# Altium schematic symbol library Symbols.SchLib: 4 symbols
Pins are listed as number, name and electrical type; pins without a type are passive.

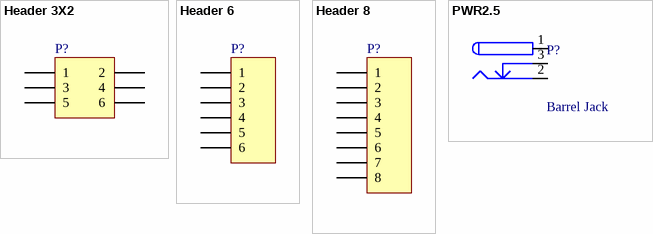
[diagram p0: symbols Header 3X2 to PWR2.5]

## Header 3X2
designator P?
Header, 3-Pin, Dual row; LatestRevisionDate: 17-Jul-2002; LatestRevisionNote: Re-released for DXP Platform.; Publisher: Altium Limited
signal-integrity model Connector
footprint HDR2X3M (Connector; Header; 3x2 Position)
pins: 1, 2, 3, 4, 5, 6

## Header 6
designator P?
Header, 6-Pin; LatestRevisionDate: 17-Jul-2002; LatestRevisionNote: Re-released for DXP Platform.; Publisher: Altium Limited
signal-integrity model Connector
footprint HDR1X6m (Connector; Header; 6 Position)
footprint HDR1X6m (Connector; Header; 6 Position)
pins: 1, 2, 3, 4, 5, 6

## Header 8
designator P?
Header, 8-Pin; LatestRevisionDate: 17-Jul-2002; LatestRevisionNote: Re-released for DXP Platform.; Publisher: Altium Limited
signal-integrity model Connector
footprint HDR1X8F (Connector; Header; 8 Position)
pins: 1, 2, 3, 4, 5, 6, 7, 8

## PWR2.5
designator P?, comment Barrel Jack
Low Voltage Power Supply Connector; Manufacturer: Memory Protection Devices; Manufacturer Part Number: EJ503A; Pricing 1: 1=2.7, 10=2.447, 100=2.0977, 500=1.74806, 1000=1.49834 (USD); Stock 1: 1084; Supplier 1: Digi-Key; Supplier Part Number 1: EJ503A-ND
footprint BARREL2.5 (DC Power Jack, 2.5mm, KLD Series, PCB Mount)
pins: 1, 2, 3